# Altium schematic symbol library SCH - DRIVER - LED - TI TPS92520-Q1DAD.SchLib: 1 symbol
Pins are listed as number, name and electrical type; pins without a type are passive.

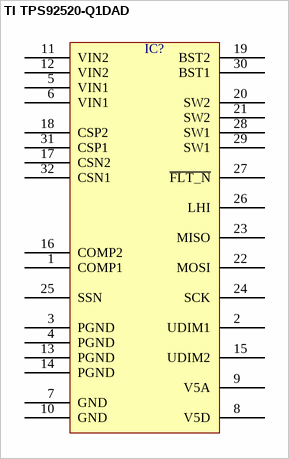
[diagram p0: symbol TI TPS92520-Q1DAD]

## TI TPS92520-Q1DAD
designator IC?  (value not drawn)
pins: 1 COMP1, 2 UDIM1, 3 PGND, 4 PGND, 5 VIN1, 6 VIN1, 7 GND, 8 V5D, 9 V5A, 10 GND, 11 VIN2, 12 VIN2, 13 PGND, 14 PGND, 15 UDIM2, 16 COMP2, 17 CSN2, 18 CSP2, 19 BST2, 20 SW2, 21 SW2, 22 MOSI, 23 MISO, 24 SCK, 25 SSN, 26 LHI, 27 ~{FLT_N}, 28 SW1, 29 SW1, 30 BST1, 31 CSP1, 32 CSN1